# Altium schematic symbol library teensy.SchLib: 7 symbols
Pins are listed as number, name and electrical type; pins without a type are passive.

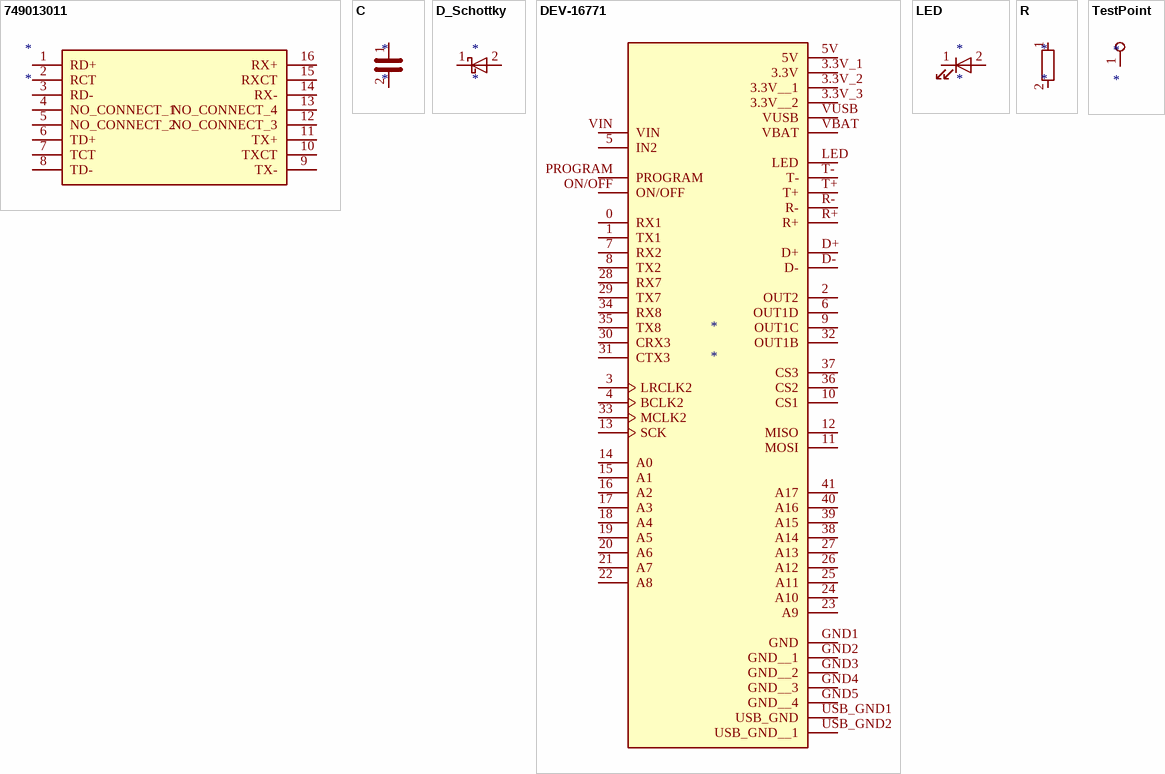
[diagram p0: symbols 749013011 to TestPoint]

## 749013011
designator *
pins: 1 RD+, 2 RCT, 3 RD-, 4 NO_CONNECT_1, 5 NO_CONNECT_2, 6 TD+, 7 TCT, 8 TD-, 9 TX-, 10 TXCT, 11 TX+, 12 NO_CONNECT_3, 13 NO_CONNECT_4, 14 RX-, 15 RXCT, 16 RX+

## C
designator *
pins: 1, 2

## D_Schottky
designator *
pins: 1 K, 2 A

## DEV-16771
designator *
pins: 0 RX1, 1 TX1, 2 OUT2, 3 LRCLK2, 3.3V_1 3.3V, 3.3V_2 3.3V__1, 3.3V_3 3.3V__2, 4 BCLK2, 5 IN2, 5V, 6 OUT1D, 7 RX2, 8 TX2, 9 OUT1C, 10 CS1, 11 MOSI, 12 MISO, 13 SCK, 14 A0, 15 A1, 16 A2, 17 A3, 18 A4, 19 A5, 20 A6, 21 A7, 22 A8, 23 A9, 24 A10, 25 A11, 26 A12, 27 A13, 28 RX7, 29 TX7, 30 CRX3, 31 CTX3, 32 OUT1B, 33 MCLK2, 34 RX8, 35 TX8, 36 CS2, 37 CS3, 38 A14, 39 A15, 40 A16, 41 A17, D+, D-, GND1 GND, GND2 GND__1, GND3 GND__2, GND4 GND__3, GND5 GND__4, LED, ON/OFF, PROGRAM, R+, R-, T+, T-, USB_GND1 USB_GND, USB_GND2 USB_GND__1, VBAT, VIN, VUSB

## LED
designator *
pins: 1 K, 2 A

## R
designator *
pins: 1, 2

## TestPoint
designator *
pins: 1